# EAGLE library part SDS-50J (library con-cuistack)
DIN 5-Pin - Circular
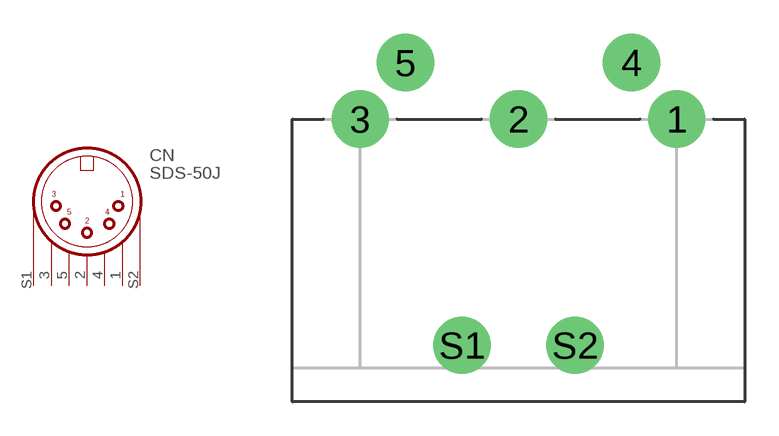
[diagram p0: symbol with the pads of SDS-50J; footprint SDS-50J]

Designator prefix CN

## SDS-50J  [SDS-50J]
1  1  pas
2  2  pas
3  3  pas
4  4  pas
5  5  pas
S1  S1  pas
S2  S2  pas

## Footprint SDS-50J (pad centres in mm)
SDS-50J - Circular DIN
drill 1.422 pad 2.54: 1 7,4.5; 2 0,4.5; 3 -7,4.5; 4 5,7; 5 -5,7; S1 -2.5,-5.5; S2 2.5,-5.5